# Altium schematic symbol library 4610X-101-221LF.SchLib: 2 symbols
Pins are listed as number, name and electrical type; pins without a type are passive.

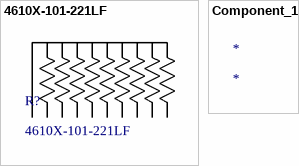
[diagram p0: symbols 4610X-101-221LF to Component_1]

## 4610X-101-221LF
designator R?
No Description Available; Mfr_Name: Bourns Electronics; Copyright: Copyright (C) 2023 Ultra Librarian. All rights reserved.; Manufacturer_Part_Number: 4610X-101-221LF; RefDes: RefDes; Type: DEV
footprint BO_4610X
pins: 1, 2, 3, 4, 5, 6, 7, 8, 9, 10

## Component_1
designator *